# Altium schematic symbol library c-trimm.SCHLIB: 1 symbol
Pins are listed as number, name and electrical type; pins without a type are passive.

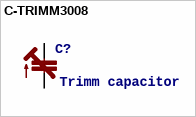
[diagram p0: symbol C-TRIMM3008]

## C-TRIMM3008
designator C?, comment Trimm capacitor
OC_FARNELL: unknown; OC_NEWARK: unknown
footprint 3008
pins: + E, - A